# EAGLE library part HFD2 (library parts)
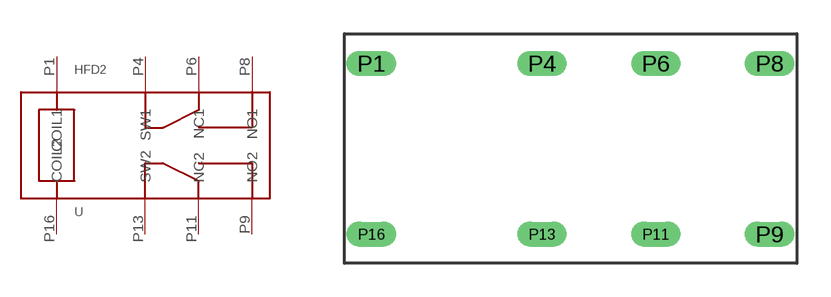
[diagram p12: symbol with the pads of HFD2; footprint HFD2]

Designator prefix -

## HFD2  [HFD2]
P1  COIL1
P4  SW1
P6  NC1
P8  NO1
P9  NO2
P11  NC2
P13  SW2
P16  COIL2

## Footprint HFD2 (pad centres in mm)
drill 0.6 long: P1 0,7.62; P4 7.62,7.62; P6 12.7,7.62; P8 17.78,7.62; P9 17.78,0; P11 12.7,0; P13 7.62,0; P16 0,0